# EAGLE library part STM32G491CET6 (library custom_library)
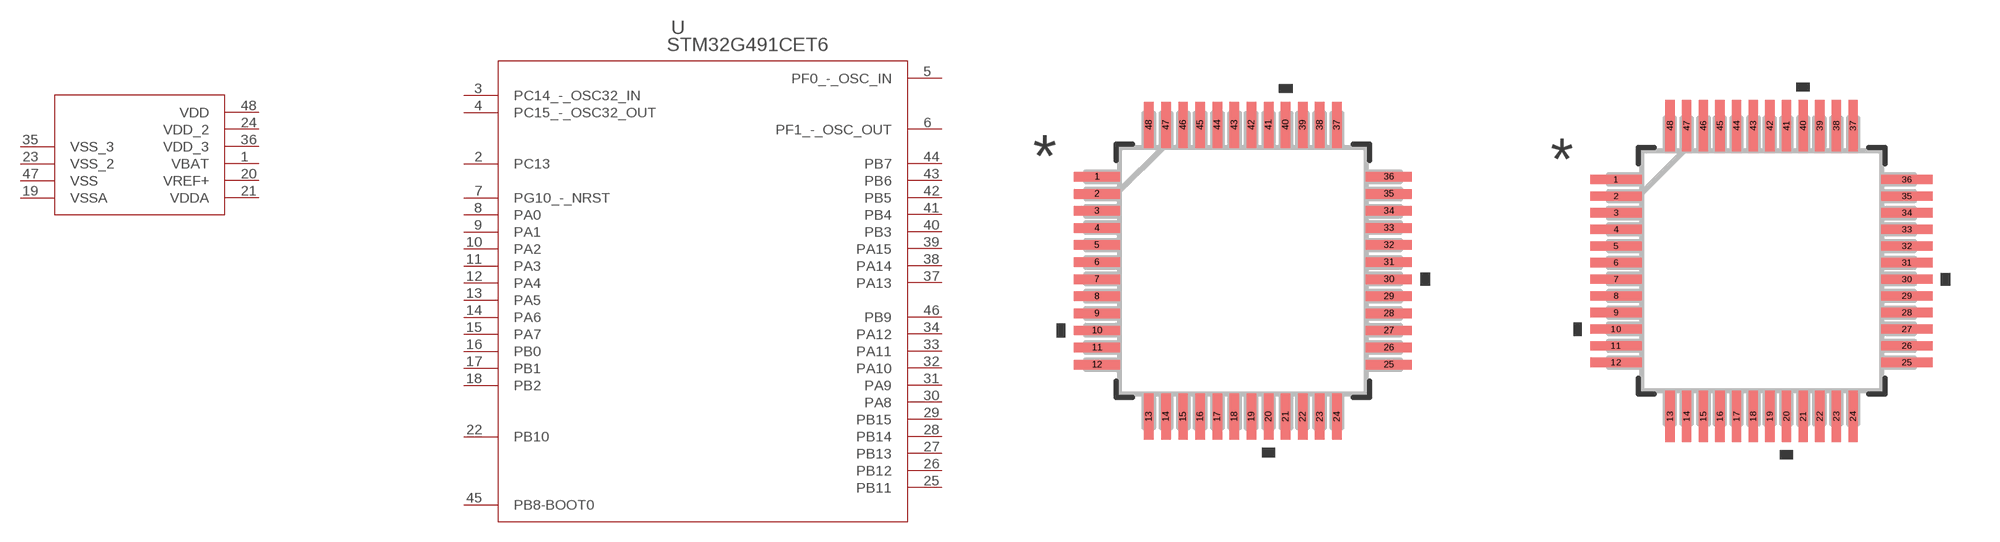
[diagram p7: symbol with the pads of LQFP_491CET6_STM; footprints LQFP_491CET6_STM, LQFP_491CET6_STM-M]

Designator prefix U

## STM32G491CET6 (COPYRIGHT: Copyright (C) 2023 Ultra Librarian. All rights reserved.; MANUFACTURER_PART_NUMBER: STM32G491CET6; MFR_NAME: STMicroelectronics)  [LQFP_491CET6_STM]
1  VBAT  pas
2  PC13
3  PC14_-_OSC32_IN
4  PC15_-_OSC32_OUT  out
5  PF0_-_OSC_IN
6  PF1_-_OSC_OUT  out
7  PG10_-_NRST  pas
8  PA0
9  PA1
10  PA2
11  PA3
12  PA4
13  PA5
14  PA6
15  PA7
16  PB0
17  PB1
18  PB2
19  VSSA  pas
20  VREF+  pwr
21  VDDA  pwr
22  PB10
23  VSS_2  pas
24  VDD_2  pwr
25  PB11
26  PB12
27  PB13
28  PB14
29  PB15
30  PA8
31  PA9
32  PA10
33  PA11
34  PA12
35  VSS_3  pas
36  VDD_3  pwr
37  PA13
38  PA14
39  PA15
40  PB3
41  PB4
42  PB5
43  PB6
44  PB7
45  PB8-BOOT0
46  PB9
47  VSS  pas
48  VDD  pwr

## STM32G491CET6LQFP_491CET6_STM-M (COPYRIGHT: Copyright (C) 2023 Ultra Librarian. All rights reserved.; MANUFACTURER_PART_NUMBER: STM32G491CET6; MFR_NAME: STMicroelectronics)  [LQFP_491CET6_STM-M]
Pads as for LQFP_491CET6_STM

## STM32G491CET6LQFP_491CET6_STM-L (COPYRIGHT: Copyright (C) 2023 Ultra Librarian. All rights reserved.; MANUFACTURER_PART_NUMBER: STM32G491CET6; MFR_NAME: STMicroelectronics)  [LQFP_491CET6_STM-L]
Pads as for LQFP_491CET6_STM

## Footprint LQFP_491CET6_STM (pad centres in mm)
smd 1.353 x 0.279: 1 -4.271,2.751; 2 -4.271,2.251; 3 -4.271,1.75; 4 -4.271,1.25; 5 -4.271,0.75; 6 -4.271,0.25; 7 -4.271,-0.25; 8 -4.271,-0.75; 9 -4.271,-1.25; 10 -4.271,-1.75; 11 -4.271,-2.251; 12 -4.271,-2.751; 25 4.271,-2.751; 26 4.271,-2.251; 27 4.271,-1.75; 28 4.271,-1.25; 29 4.271,-0.75; 30 4.271,-0.25; 31 4.271,0.25; 32 4.271,0.75; 33 4.271,1.25; 34 4.271,1.75; 35 4.271,2.251; 36 4.271,2.751
smd 0.279 x 1.353: 13 -2.751,-4.271; 14 -2.251,-4.271; 15 -1.75,-4.271; 16 -1.25,-4.271; 17 -0.75,-4.271; 18 -0.25,-4.271; 19 0.25,-4.271; 20 0.75,-4.271; 21 1.25,-4.271; 22 1.75,-4.271; 23 2.251,-4.271; 24 2.751,-4.271; 37 2.751,4.271; 38 2.251,4.271; 39 1.75,4.271; 40 1.25,4.271; 41 0.75,4.271; 42 0.25,4.271; 43 -0.25,4.271; 44 -0.75,4.271; 45 -1.25,4.271; 46 -1.75,4.271; 47 -2.251,4.271; 48 -2.751,4.271

## Footprint LQFP_491CET6_STM-M (pad centres in mm)
smd 1.553 x 0.279: 1 -4.371,2.751; 2 -4.371,2.251; 3 -4.371,1.75; 4 -4.371,1.25; 5 -4.371,0.75; 6 -4.371,0.25; 7 -4.371,-0.25; 8 -4.371,-0.75; 9 -4.371,-1.25; 10 -4.371,-1.75; 11 -4.371,-2.251; 12 -4.371,-2.751; 25 4.371,-2.751; 26 4.371,-2.251; 27 4.371,-1.75; 28 4.371,-1.25; 29 4.371,-0.75; 30 4.371,-0.25; 31 4.371,0.25; 32 4.371,0.75; 33 4.371,1.25; 34 4.371,1.75; 35 4.371,2.251; 36 4.371,2.751
smd 0.279 x 1.553: 13 -2.751,-4.371; 14 -2.251,-4.371; 15 -1.75,-4.371; 16 -1.25,-4.371; 17 -0.75,-4.371; 18 -0.25,-4.371; 19 0.25,-4.371; 20 0.75,-4.371; 21 1.25,-4.371; 22 1.75,-4.371; 23 2.251,-4.371; 24 2.751,-4.371; 37 2.751,4.371; 38 2.251,4.371; 39 1.75,4.371; 40 1.25,4.371; 41 0.75,4.371; 42 0.25,4.371; 43 -0.25,4.371; 44 -0.75,4.371; 45 -1.25,4.371; 46 -1.75,4.371; 47 -2.251,4.371; 48 -2.751,4.371

## Footprint LQFP_491CET6_STM-L (pad centres in mm)
smd 1.153 x 0.229: 1 -4.171,2.751; 2 -4.171,2.251; 3 -4.171,1.75; 4 -4.171,1.25; 5 -4.171,0.75; 6 -4.171,0.25; 7 -4.171,-0.25; 8 -4.171,-0.75; 9 -4.171,-1.25; 10 -4.171,-1.75; 11 -4.171,-2.251; 12 -4.171,-2.751; 25 4.171,-2.751; 26 4.171,-2.251; 27 4.171,-1.75; 28 4.171,-1.25; 29 4.171,-0.75; 30 4.171,-0.25; 31 4.171,0.25; 32 4.171,0.75; 33 4.171,1.25; 34 4.171,1.75; 35 4.171,2.251; 36 4.171,2.751
smd 0.229 x 1.153: 13 -2.751,-4.171; 14 -2.251,-4.171; 15 -1.75,-4.171; 16 -1.25,-4.171; 17 -0.75,-4.171; 18 -0.25,-4.171; 19 0.25,-4.171; 20 0.75,-4.171; 21 1.25,-4.171; 22 1.75,-4.171; 23 2.251,-4.171; 24 2.751,-4.171; 37 2.751,4.171; 38 2.251,4.171; 39 1.75,4.171; 40 1.25,4.171; 41 0.75,4.171; 42 0.25,4.171; 43 -0.25,4.171; 44 -0.75,4.171; 45 -1.25,4.171; 46 -1.75,4.171; 47 -2.251,4.171; 48 -2.751,4.171